# Altium schematic symbol library Tantalum_Capacitor.SchLib: 45 symbols (part 2 of 2)
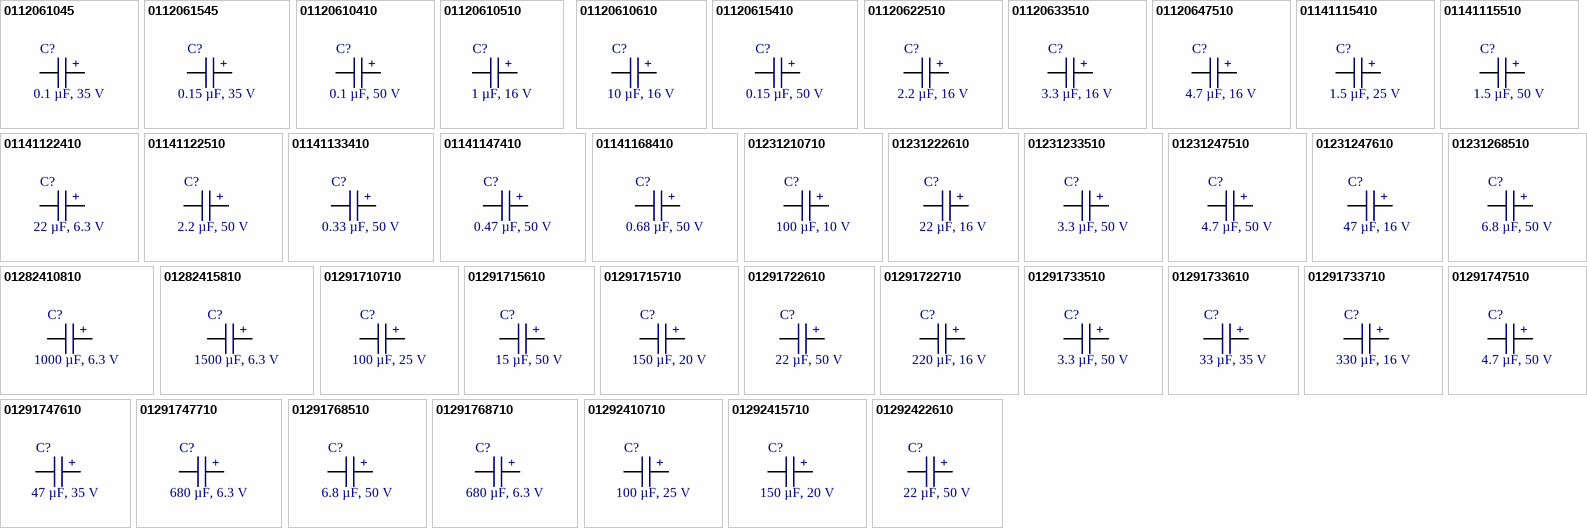
[diagram p2: symbols 0112061045 to 01292422610]

## 01292410710
designator C?, comment 100 µF, 25 V
CAP TANT 100uF 10% 25V 2924; Manufacture  Name: KYOCERA AVX; Manufacture  SN: TPSV107K025R0100; Capacitance Tolerance: +/-10%; ComponentLink1Description: Datasheet link; ComponentLink1URL: https://datasheets.kyocera-avx.com/TAJ.pdf; ComponentLink2Description: Supplier 1 URL; ComponentLink2URL: https://www.mouser.vn/ProductDetail/KYOCERA-AVX/TPSV107K025R0100?qs=IhCrbqXAlX6VN1%252BxNXMqjg%3D%3D; Size: 2924; Mounting Technology: SMT; Capacitance: 100uF; ComponentLink3Description: Supplier 2 URL; ComponentLink3URL: https://www.digikey.com/en/products/detail/kyocera-avx/TPSV107K025R0100/809554; ComponentLink4Description: Supplier 3 URL; ComponentLink4URL: N/A; Supplier 1 Name: Mouser; Supplier 1 SN: 581-TPSV107K025R0100; Supplier 1 URL: https://www.mouser.vn/ProductDetail/KYOCERA-AVX/TPSV107K025R0100?qs=IhCrbqXAlX6VN1%252BxNXMqjg%3D%3D; Supplier 2 Name: Digi-Key; Supplier 2 SN: 478-3104-1-ND; Supplier 2 URL: https://www.digikey.com/en/products/detail/kyocera-avx/TPSV107K025R0100/809554; Supplier 3 Name: thegioiic; Supplier 3 SN: N/A; Supplier 3 URL: N/A; Value: 100 µF, 25 V; Rated Voltage: 25 V
footprint TANTALUM SMD V (SMD TIPO V 7.3 x 6.1)
pins: 1, 2
text: +

## 01292415710
designator C?, comment 150 µF, 20 V
CAP TANT 150uF 10% 20V 2924; Manufacture  Name: KYOCERA AVX; Manufacture  SN: TPSV157K020R0080; Capacitance Tolerance: +/-10%; ComponentLink1Description: Datasheet link; ComponentLink1URL: https://datasheets.kyocera-avx.com/TAJ.pdf; ComponentLink2Description: Supplier 1 URL; ComponentLink2URL: https://www.mouser.vn/ProductDetail/KYOCERA-AVX/TPSV157K020R0080?qs=WFeDzVsYErjC6Qggev53yA%3D%3D; Size: 2924; Mounting Technology: SMT; Capacitance: 150uF; ComponentLink3Description: Supplier 2 URL; ComponentLink3URL: https://www.digikey.com/en/products/detail/kyocera-avx/TPSV157K020R0080/809549; ComponentLink4Description: Supplier 3 URL; ComponentLink4URL: N/A; Supplier 1 Name: Mouser; Supplier 1 SN: 581-TPSV157K020R0080; Supplier 1 URL: https://www.mouser.vn/ProductDetail/KYOCERA-AVX/TPSV157K020R0080?qs=WFeDzVsYErjC6Qggev53yA%3D%3D; Supplier 2 Name: Digi-Key; Supplier 2 SN: 478-3099-1-ND; Supplier 2 URL: https://www.digikey.com/en/products/detail/kyocera-avx/TPSV157K020R0080/809549; Supplier 3 Name: thegioiic; Supplier 3 SN: N/A; Supplier 3 URL: N/A; Value: 150 µF, 20 V; Rated Voltage: 20 V
footprint TANTALUM SMD V (SMD TIPO V 7.3 x 6.1)
pins: 1, 2
text: +

## 01292422610
designator C?, comment 22 µF, 50 V
CAP TANT 22uF 10% 50V 2924; Manufacture  Name: KYOCERA AVX; Manufacture  SN: TAJV226K050RNJ; Capacitance Tolerance: +/-10%; ComponentLink1Description: Datasheet link; ComponentLink1URL: https://datasheets.kyocera-avx.com/TAJ.pdf; ComponentLink2Description: Supplier 1 URL; ComponentLink2URL: https://www.mouser.vn/ProductDetail/KYOCERA-AVX/TAJV226K050RNJ?qs=Wtp%252Bf%2FAeVqJ7BFNT%2FYDviw%3D%3D; Size: 2924; Mounting Technology: SMT; Capacitance: 22uF; ComponentLink3Description: Supplier 2 URL; ComponentLink3URL: https://www.digikey.com/en/products/detail/kyocera-avx/TAJV226K050RNJ/1470719; ComponentLink4Description: Supplier 3 URL; ComponentLink4URL: N/A; Supplier 1 Name: Mouser; Supplier 1 SN: 581-TAJV226K050; Supplier 1 URL: https://www.mouser.vn/ProductDetail/KYOCERA-AVX/TAJV226K050RNJ?qs=Wtp%252Bf%2FAeVqJ7BFNT%2FYDviw%3D%3D; Supplier 2 Name: Digi-Key; Supplier 2 SN: 478-5811-1-ND; Supplier 2 URL: https://www.digikey.com/en/products/detail/kyocera-avx/TAJV226K050RNJ/1470719; Supplier 3 Name: thegioiic; Supplier 3 SN: N/A; Supplier 3 URL: N/A; Value: 22 µF, 50 V; Rated Voltage: 50 V
footprint TANTALUM SMD V (SMD TIPO V 7.3 x 6.1)
pins: 1, 2
text: +

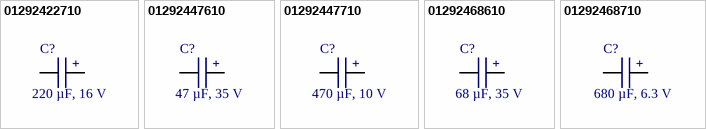
[diagram p1: symbols 01292422710 to 01292468710]

## 01292422710
designator C?, comment 220 µF, 16 V
CAP TANT 220uF 10% 16V 2924; Manufacture  Name: KYOCERA AVX; Manufacture  SN: TPSV227K016R0050; Capacitance Tolerance: +/-10%; ComponentLink1Description: Datasheet link; ComponentLink1URL: https://datasheets.kyocera-avx.com/TAJ.pdf; ComponentLink2Description: Supplier 1 URL; ComponentLink2URL: https://www.mouser.vn/ProductDetail/KYOCERA-AVX/TPSV227K016R0050?qs=o8pCLL1YTSZyXU7SYsny7A%3D%3D; Size: 2924; Mounting Technology: SMT; Capacitance: 220uF; ComponentLink3Description: Supplier 2 URL; ComponentLink3URL: https://www.digikey.com/en/products/detail/kyocera-avx/TPSV227K016R0050/929959; ComponentLink4Description: Supplier 3 URL; ComponentLink4URL: N/A; Supplier 1 Name: Mouser; Supplier 1 SN: 581-TPSV227K016R0050; Supplier 1 URL: https://www.mouser.vn/ProductDetail/KYOCERA-AVX/TPSV227K016R0050?qs=o8pCLL1YTSZyXU7SYsny7A%3D%3D; Supplier 2 Name: Digi-Key; Supplier 2 SN: 478-3327-1-ND; Supplier 2 URL: https://www.digikey.com/en/products/detail/kyocera-avx/TPSV227K016R0050/929959; Supplier 3 Name: thegioiic; Supplier 3 SN: N/A; Supplier 3 URL: N/A; Value: 220 µF, 16 V; Rated Voltage: 16 V
footprint TANTALUM SMD V (SMD TIPO V 7.3 x 6.1)
pins: 1, 2
text: +

## 01292447610
designator C?, comment 47 µF, 35 V
CAP TANT 47uF 10% 35V 2924; Manufacture  Name: KYOCERA AVX; Manufacture  SN: TPSV476K035R0150; Capacitance Tolerance: +/-10%; ComponentLink1Description: Datasheet link; ComponentLink1URL: https://datasheets.kyocera-avx.com/TAJ.pdf; ComponentLink2Description: Supplier 1 URL; ComponentLink2URL: https://www.mouser.vn/ProductDetail/KYOCERA-AVX/TPSV476K035R0150?qs=Of9BA0M78V98a%2FcT3pr0og%3D%3D; Size: 2924; Mounting Technology: SMT; Capacitance: 47uF; ComponentLink3Description: Supplier 2 URL; ComponentLink3URL: https://www.digikey.com/en/products/detail/kyocera-avx/TPSV476K035R0150/3068832; ComponentLink4Description: Supplier 3 URL; ComponentLink4URL: N/A; Supplier 1 Name: Mouser; Supplier 1 SN: 581-TPSV476K035R0150; Supplier 1 URL: https://www.mouser.vn/ProductDetail/KYOCERA-AVX/TPSV476K035R0150?qs=Of9BA0M78V98a%2FcT3pr0og%3D%3D; Supplier 2 Name: Digi-Key; Supplier 2 SN: 478-9282-1-ND; Supplier 2 URL: https://www.digikey.com/en/products/detail/kyocera-avx/TPSV476K035R0150/3068832; Supplier 3 Name: thegioiic; Supplier 3 SN: N/A; Supplier 3 URL: N/A; Value: 47 µF, 35 V; Rated Voltage: 35 V
footprint TANTALUM SMD V (SMD TIPO V 7.3 x 6.1)
pins: 1, 2
text: +

## 01292447710
designator C?, comment 470 µF, 10 V
CAP TANT 470uF 10% 10V 2924; Manufacture  Name: KYOCERA AVX; Manufacture  SN: TAJV477K010RNJ; Capacitance Tolerance: +/-10%; ComponentLink1Description: Datasheet link; ComponentLink1URL: https://datasheets.kyocera-avx.com/TAJ.pdf; ComponentLink2Description: Supplier 1 URL; ComponentLink2URL: https://www.mouser.vn/ProductDetail/KYOCERA-AVX/TAJV477K010RNJ?qs=fdqkYiOtZpe%2FSfhUgZGD6w%3D%3D; Size: 2924; Mounting Technology: SMT; Capacitance: 470uF; ComponentLink3Description: Supplier 2 URL; ComponentLink3URL: https://www.digikey.com/en/products/detail/kyocera-avx/TAJV477K010RNJ/1470738; ComponentLink4Description: Supplier 3 URL; ComponentLink4URL: N/A; Supplier 1 Name: Mouser; Supplier 1 SN: 581-TAJV477K010; Supplier 1 URL: https://www.mouser.vn/ProductDetail/KYOCERA-AVX/TAJV477K010RNJ?qs=fdqkYiOtZpe%2FSfhUgZGD6w%3D%3D; Supplier 2 Name: Digi-Key; Supplier 2 SN: 478-12957-1-ND; Supplier 2 URL: https://www.digikey.com/en/products/detail/kyocera-avx/TAJV477K010RNJ/1470738; Supplier 3 Name: thegioiic; Supplier 3 SN: N/A; Supplier 3 URL: N/A; Value: 470 µF, 10 V; Rated Voltage: 10 V
footprint TANTALUM SMD V (SMD TIPO V 7.3 x 6.1)
pins: 1, 2
text: +

## 01292468610
designator C?, comment 68 µF, 35 V
CAP TANT 68uF 10% 35V 2924; Manufacture  Name: KYOCERA AVX; Manufacture  SN: TAJV686K035RNJ; Capacitance Tolerance: +/-10%; ComponentLink1Description: Datasheet link; ComponentLink1URL: https://datasheets.kyocera-avx.com/TAJ.pdf; ComponentLink2Description: Supplier 1 URL; ComponentLink2URL: https://www.mouser.vn/ProductDetail/KYOCERA-AVX/TAJV686K035RNJ?qs=pYVYkI7xuRUQ%252Bw0accNjsQ%3D%3D; Size: 2924; Mounting Technology: SMT; Capacitance: 68uF; ComponentLink3Description: Supplier 2 URL; ComponentLink3URL: https://www.digikey.com/en/products/detail/kyocera-avx/TAJV686K035RNJ/9948469; ComponentLink4Description: Supplier 3 URL; ComponentLink4URL: N/A; Supplier 1 Name: Mouser; Supplier 1 SN: 581-TAJV686K035RNJ; Supplier 1 URL: https://www.mouser.vn/ProductDetail/KYOCERA-AVX/TAJV686K035RNJ?qs=pYVYkI7xuRUQ%252Bw0accNjsQ%3D%3D; Supplier 2 Name: Digi-Key; Supplier 2 SN: 478-13135-1-ND; Supplier 2 URL: https://www.digikey.com/en/products/detail/kyocera-avx/TAJV686K035RNJ/9948469; Supplier 3 Name: thegioiic; Supplier 3 SN: N/A; Supplier 3 URL: N/A; Value: 68 µF, 35 V; Rated Voltage: 35 V
footprint TANTALUM SMD V (SMD TIPO V 7.3 x 6.1)
pins: 1, 2
text: +

## 01292468710
designator C?, comment 680 µF, 6.3 V
CAP TANT 680uF 10% 6.3V 2924; Manufacture  Name: KYOCERA AVX; Manufacture  SN: TPSV687K006R0035; Capacitance Tolerance: +/-10%; ComponentLink1Description: Datasheet link; ComponentLink1URL: https://datasheets.kyocera-avx.com/TAJ.pdf; ComponentLink2Description: Supplier 1 URL; ComponentLink2URL: https://www.mouser.vn/ProductDetail/KYOCERA-AVX/TPSV687K006R0035?qs=so6VEa4iOr%252BsfKtUxxpvew%3D%3D; Size: 2924; Mounting Technology: SMT; Capacitance: 680uF; ComponentLink3Description: Supplier 2 URL; ComponentLink3URL: https://www.digikey.com/en/products/detail/kyocera-avx/TPSV687K006R0035/809533; ComponentLink4Description: Supplier 3 URL; ComponentLink4URL: N/A; Supplier 1 Name: Mouser; Supplier 1 SN: 581-TPSV687K006R0035; Supplier 1 URL: https://www.mouser.vn/ProductDetail/KYOCERA-AVX/TPSV687K006R0035?qs=so6VEa4iOr%252BsfKtUxxpvew%3D%3D; Supplier 2 Name: Digi-Key; Supplier 2 SN: 478-3083-1-ND; Supplier 2 URL: https://www.digikey.com/en/products/detail/kyocera-avx/TPSV687K006R0035/809533; Supplier 3 Name: thegioiic; Supplier 3 SN: N/A; Supplier 3 URL: N/A; Value: 680 µF, 6.3 V; Rated Voltage: 6.3 V
footprint TANTALUM SMD V (SMD TIPO V 7.3 x 6.1)
pins: 1, 2
text: +